# EAGLE library part ARDUINO_R3_NO_SPI (library imix)
Arduino R3 Footprint (w/ SPI header)
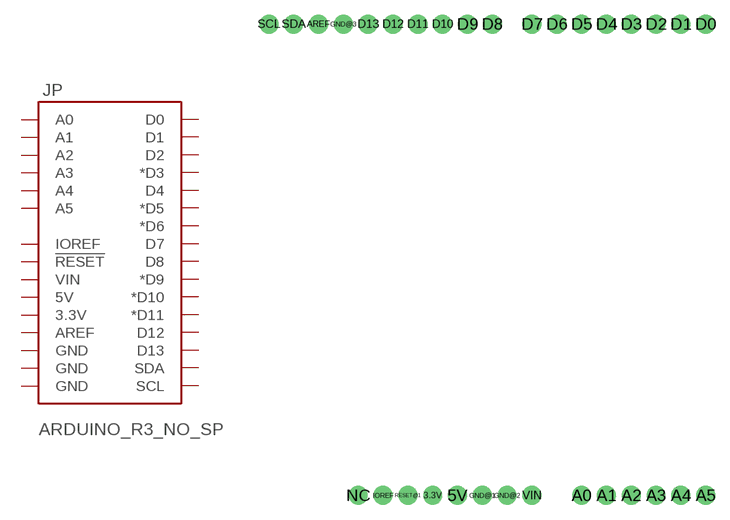
[diagram p16: symbol with the pads of ARDUINO_R3_NO_HOLES_NO_SPI; footprint ARDUINO_R3_NO_HOLES_NO_SPI]

Designator prefix JP

## ARDUINO_R3_NO_SPI  [ARDUINO_R3_NO_HOLES_NO_SPI]
3.3V  3.3V
5V  5V
A0  A0
A1  A1
A2  A2
A3  A3
A4  A4
A5  A5
AREF  AREF
D0  D0
D1  D1
D2  D2
D3  *D3
D4  D4
D5  *D5
D6  *D6
D7  D7
D8  D8
D9  *D9
D10  *D10
D11  *D11
D12  D12
D13  D13
GND@1  GND
GND@2  GND
GND@3  GND
IOREF  IOREF
RESET@1  !RESET!
SCL  SCL
SDA  SDA
VIN  VIN

## Footprint ARDUINO_R3_NO_HOLES_NO_SPI (pad centres in mm)
drill 1.016 pad 1.93: 3.3V 35.56,2.54; 5V 38.1,2.54; A0 50.8,2.54; A1 53.34,2.54; A2 55.88,2.54; A3 58.42,2.54; A4 60.96,2.54; A5 63.5,2.54; AREF 23.876,50.8; D0 63.5,50.8; D1 60.96,50.8; D2 58.42,50.8; D3 55.88,50.8; D4 53.34,50.8; D5 50.8,50.8; D6 48.26,50.8; D7 45.72,50.8; D8 41.656,50.8; D9 39.116,50.8; D10 36.576,50.8; D11 34.036,50.8; D12 31.496,50.8; D13 28.956,50.8; GND@1 40.64,2.54; GND@2 43.18,2.54; GND@3 26.416,50.8; IOREF 30.48,2.54; NC 27.94,2.54; RESET@1 33.02,2.54; SCL 18.796,50.8; SDA 21.336,50.8; VIN 45.72,2.54